# Altium schematic symbol library resistor.SchLib: 7 symbols
Pins are listed as number, name and electrical type; pins without a type are passive.

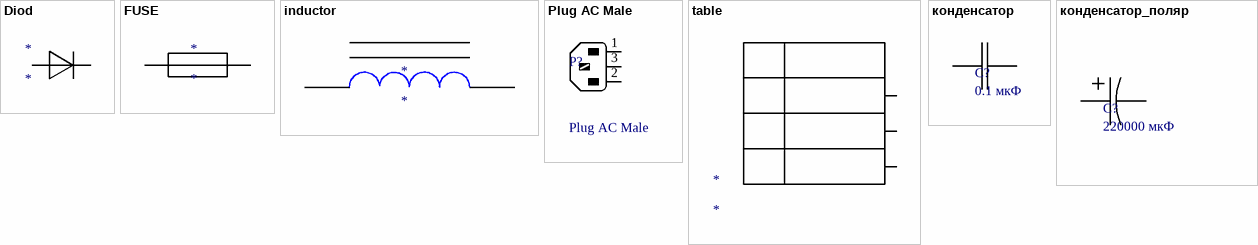
[diagram p0: symbols Diod to конденсатор_поляр]

## Diod
designator *
footprint DIOD
pins: 1, 2

## FUSE
designator *
footprint FUSE 80
pins: 1, 2

## inductor
designator *
footprint inductor
pins: 1, 2

## Plug AC Male
designator P?
IEC Mains Power Inlet, EN60 320-1 C14 Class I Cold Condition, PC Flange Rear Mount, Chassis Plug; PackageDocument: ver.80, 15-Sep-2003; MaximumRating: 10A, 250V a.c. (UL & CSA 15A, 250V a.c.); MountingFixtures: Not drawn on schematic symbol.; PCB_Layout: Complies with manufacturer's recommendation.; DrillSize: Corresponds to nominal value.; Note: IEC Color Scheme employed for L, N and E.; Published: 15-Jul-2004; LatestRevisionDate: 15-Jul-2004; LatestRevisionNote: Component Replaced.; DatasheetDocument: ver.80, 15-Sep-2003; PackageReference: PX0580/PC; Publisher: Altium Limited; Terminations: P.C. Spills; ComponentLink1Description: Manufacturer Link; ComponentLink1URL: http://www.bulgin.co.uk/
footprint AC
pins: 1 L (power) "Live (Active)", 2 N (power) "Neutral", 3 E (power) "Earth (Ground)"

## table
designator *
pins: ?1, ?2, ?3

## конденсатор
designator C?, comment 0.1 мкФ
Manufacturer: *
footprint Condensator
pins: 1, 2

## конденсатор_поляр
designator C?, comment 220000 мкФ
Manufacturer: *
footprint condpolar
pins: 1, 2